# EAGLE library part NRF51822 (library talons-microcontrollers)
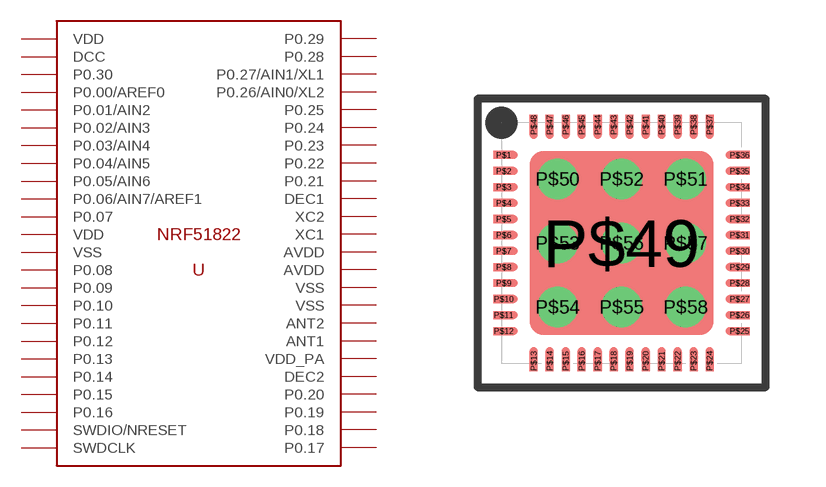
[diagram p1: symbol with the pads of QFN-48; footprint QFN-48]

Designator prefix -

## NRF51822  [QFN-48]
P$1  VDD  pwr
P$2  DCC  pwr
P$3  P0.30
P$4  P0.00/AREF0
P$5  P0.01/AIN2
P$6  P0.02/AIN3
P$7  P0.03/AIN4
P$8  P0.04/AIN5
P$9  P0.05/AIN6
P$10  P0.06/AIN7/AREF1
P$11  P0.07
P$12  VDD  pwr
P$13  VSS  pwr
P$14  P0.08
P$15  P0.09
P$16  P0.10
P$17  P0.11
P$18  P0.12
P$19  P0.13
P$20  P0.14
P$21  P0.15
P$22  P0.16
P$23  SWDIO/NRESET
P$24  SWDCLK
P$25  P0.17
P$26  P0.18
P$27  P0.19
P$28  P0.20
P$29  DEC2
P$30  VDD_PA  pwr
P$31  ANT1
P$32  ANT2
P$33  VSS  pwr
P$34  VSS  pwr
P$35  AVDD  pwr
P$36  AVDD  pwr
P$37  XC1
P$38  XC2
P$39  DEC1
P$40  P0.21
P$41  P0.22
P$42  P0.23
P$43  P0.24
P$44  P0.25
P$45  P0.26/AIN0/XL2
P$46  P0.27/AIN1/XL1
P$47  P0.28
P$48  P0.29
P$49  VSS  pwr
P$50  VSS  pwr
P$51  VSS  pwr
P$52  VSS  pwr
P$53  VSS  pwr
P$54  VSS  pwr
P$55  VSS  pwr
P$56  VSS  pwr
P$57  VSS  pwr
P$58  VSS  pwr

## Footprint QFN-48 (pad centres in mm)
smd 0.5 x 0.2: P$1 -2.95,2.2; P$2 -2.95,1.8; P$3 -2.95,1.4; P$4 -2.95,1; P$5 -2.95,0.6; P$6 -2.95,0.2; P$7 -2.95,-0.2; P$8 -2.95,-0.6; P$9 -2.95,-1; P$10 -2.95,-1.4; P$11 -2.95,-1.8; P$12 -2.95,-2.2; P$25 2.95,-2.2; P$26 2.95,-1.8; P$27 2.95,-1.4; P$28 2.95,-1; P$29 2.95,-0.6; P$30 2.95,-0.2; P$31 2.95,0.2; P$32 2.95,0.6; P$33 2.95,1; P$34 2.95,1.4; P$35 2.95,1.8; P$36 2.95,2.2
smd 0.2 x 0.5: P$13 -2.2,-2.95; P$14 -1.8,-2.95; P$15 -1.4,-2.95; P$16 -1,-2.95; P$17 -0.6,-2.95; P$18 -0.2,-2.95; P$19 0.2,-2.95; P$20 0.6,-2.95; P$21 1,-2.95; P$22 1.4,-2.95; P$23 1.8,-2.95; P$24 2.2,-2.95; P$37 2.2,2.95; P$38 1.8,2.95; P$39 1.4,2.95; P$40 1,2.95; P$41 0.6,2.95; P$42 0.2,2.95; P$43 -0.2,2.95; P$44 -0.6,2.95; P$45 -1,2.95; P$46 -1.4,2.95; P$47 -1.8,2.95; P$48 -2.2,2.95
smd 4.6 x 4.6: P$49 0,0
drill 0.5 pad 1.016: P$50 -1.6,1.6; P$51 1.6,1.6; P$52 0,1.6; P$53 -1.6,0; P$54 -1.6,-1.6; P$55 0,-1.6; P$56 0,0; P$57 1.6,0; P$58 1.6,-1.6